# Altium integrated library Linear Technology Power Management Power-Over-Ethernet (PoE) Interface Controllers.IntLib: 174 symbols (part 13 of 16)
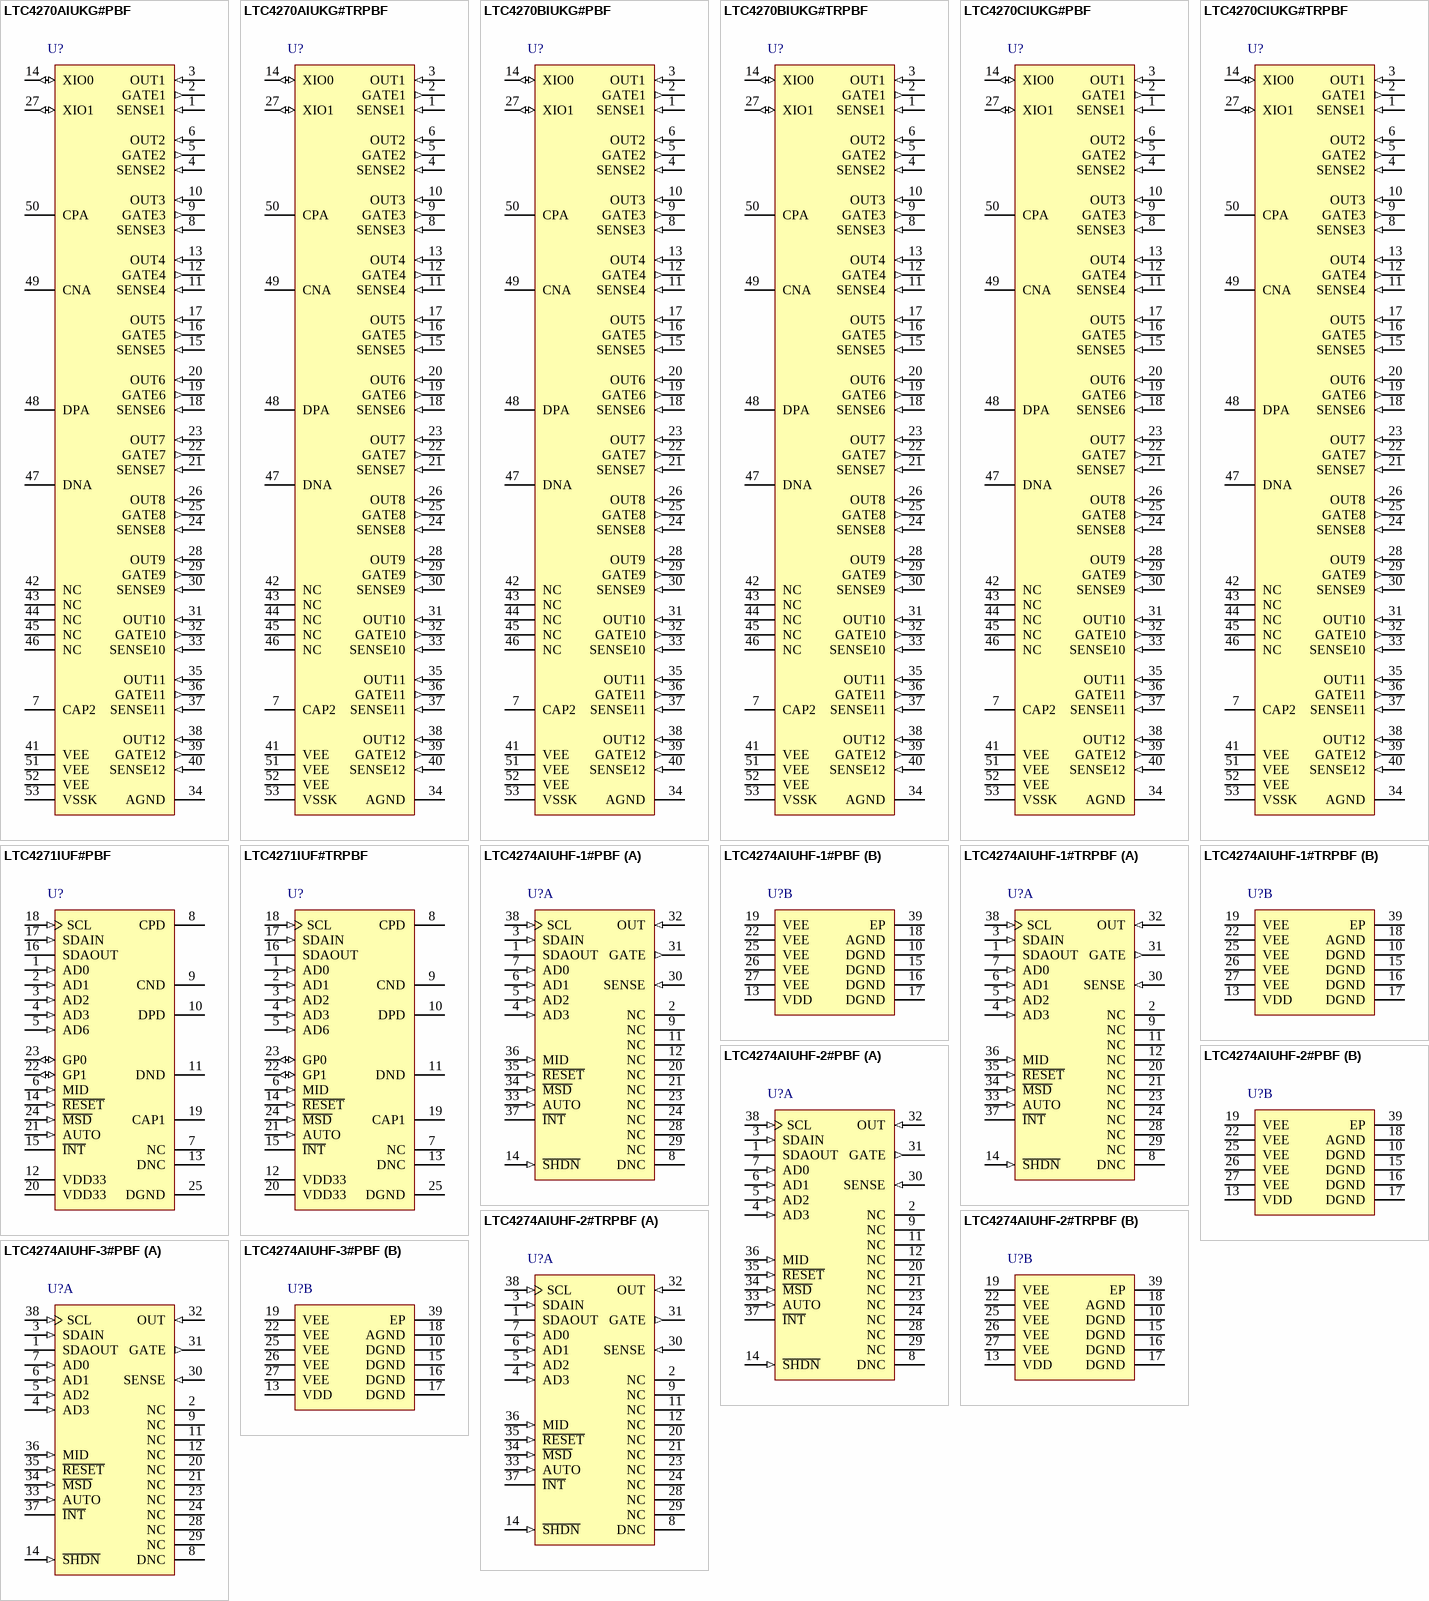
[diagram p20: symbols LTC4270AIUKG#PBF to LTC4274AIUHF-3#PBF]

## LTC4270CIUKG#TRPBF
designator U?
12-Port PoE / PoE+ / LTPoE++ PSE Controller, 52-pin QFN (UKG-52), -40 to 85 degC, Pb-Free, Tape and Reel; Manufacturer: Linear Technology; PartNumber: LTC4270CIUKG#TRPBF; Channels(#): 12; Extended Temp: I; I2C Interface: yes; Max Power(W): 13; PoE Type: 1, 2, LTPoE++; DatasheetVersion: Rev. C; PackageVersion: Rev. Ø, 06/2010; PackageReference: UKG-52; PackageDescription: 52-Pin Plastic QFN, Body 8 x 7 mm, Pitch 0.5 mm; Supplier 1: Newark; Supplier Part Number 1: 59T5713; Packing: Tape and Reel; PSE/PD: PSE; RoHS: TRUE; Mounting Technology: Surface Mount; ComponentLink1Description: Manufacturer URL; ComponentLink1URL: http://www.linear.com/; ComponentLink2Description: Datasheet; ComponentLink2URL: http://cds.linear.com/docs/en/datasheet/42701fc.pdf; ComponentLink3Description: Package Specification; ComponentLink3URL: http://cds.linear.com/docs/en/packaging/QFN_52_05-08-1729.pdf
footprint LT-UKG-52_N (QFN, 52-Leads, Body 8.1x7.1mm, Pitch 0.5mm, Thermal Pad 6.45x5.41mm, IPC Medium Density)
footprint LT-UKG-52_L (QFN, 52-Leads, Body 8.1x7.1mm, Pitch 0.5mm, Thermal Pad 6.45x5.41mm, IPC High Density)
footprint LT-UKG-52_M (QFN, 52-Leads, Body 8.1x7.1mm, Pitch 0.5mm, Thermal Pad 6.45x5.41mm, IPC Low Density)
pins: 1 SENSE1 (in) "Port n Current Sense Input. SENSEn monitors the external MOSFET current via a 0.5ohm or 0.25ohm sense resistor between SENSEn and VEE. Whenever the voltage across the sense resistor exceeds the overcurrent detection (See Datasheet)", 2 GATE1 (out) "Port n Gate Drive. GATEn should be connected to the gate of the external MOSFET for port n. When the MOSFET is turned on, the gate voltage is driven to 12V (typ) above VEE. During a current limit condition, the voltage at (See Datasheet)", 3 OUT1 (in) "Port n Output Voltage Monitor. OUTn should be connected to the output port. A current limit foldback circuit limits the power dissipation in the external MOSFET by reducing the current limit threshold when the (See Datasheet)", 4 SENSE2 (in) "Port n Current Sense Input. SENSEn monitors the external MOSFET current via a 0.5ohm or 0.25ohm sense resistor between SENSEn and VEE. Whenever the voltage across the sense resistor exceeds the overcurrent detection (See Datasheet)", 5 GATE2 (out) "Port n Gate Drive. GATEn should be connected to the gate of the external MOSFET for port n. When the MOSFET is turned on, the gate voltage is driven to 12V (typ) above VEE. During a current limit condition, the voltage at (See Datasheet)", 6 OUT2 (in) "Port n Output Voltage Monitor. OUTn should be connected to the output port. A current limit foldback circuit limits the power dissipation in the external MOSFET by reducing the current limit threshold when the (See Datasheet)", 7 CAP2 "Analog Internal 4.3V Power Supply Bypass Capacitor. Connect 0.1uF ceramic cap to VEE.", 8 SENSE3 (in) "Port n Current Sense Input. SENSEn monitors the external MOSFET current via a 0.5ohm or 0.25ohm sense resistor between SENSEn and VEE. Whenever the voltage across the sense resistor exceeds the overcurrent detection (See Datasheet)", 9 GATE3 (out) "Port n Gate Drive. GATEn should be connected to the gate of the external MOSFET for port n. When the MOSFET is turned on, the gate voltage is driven to 12V (typ) above VEE. During a current limit condition, the voltage at (See Datasheet)", 10 OUT3 (in) "Port n Output Voltage Monitor. OUTn should be connected to the output port. A current limit foldback circuit limits the power dissipation in the external MOSFET by reducing the current limit threshold when the (See Datasheet)", 11 SENSE4 (in) "Port n Current Sense Input. SENSEn monitors the external MOSFET current via a 0.5ohm or 0.25ohm sense resistor between SENSEn and VEE. Whenever the voltage across the sense resistor exceeds the overcurrent detection (See Datasheet)", 12 GATE4 (out) "Port n Gate Drive. GATEn should be connected to the gate of the external MOSFET for port n. When the MOSFET is turned on, the gate voltage is driven to 12V (typ) above VEE. During a current limit condition, the voltage at (See Datasheet)", 13 OUT4 (in) "Port n Output Voltage Monitor. OUTn should be connected to the output port. A current limit foldback circuit limits the power dissipation in the external MOSFET by reducing the current limit threshold when the (See Datasheet)", 14 XIO0 (io) "General Purpose Digital Input Output. Logic signal between VEE and VEE + 4.3V. Internal pull up.", 15 SENSE5 (in) "Port n Current Sense Input. SENSEn monitors the external MOSFET current via a 0.5ohm or 0.25ohm sense resistor between SENSEn and VEE. Whenever the voltage across the sense resistor exceeds the overcurrent detection (See Datasheet)", 16 GATE5 (out) "Port n Gate Drive. GATEn should be connected to the gate of the external MOSFET for port n. When the MOSFET is turned on, the gate voltage is driven to 12V (typ) above VEE. During a current limit condition, the voltage at (See Datasheet)", 17 OUT5 (in) "Port n Output Voltage Monitor. OUTn should be connected to the output port. A current limit foldback circuit limits the power dissipation in the external MOSFET by reducing the current limit threshold when the (See Datasheet)", 18 SENSE6 (in) "Port n Current Sense Input. SENSEn monitors the external MOSFET current via a 0.5ohm or 0.25ohm sense resistor between SENSEn and VEE. Whenever the voltage across the sense resistor exceeds the overcurrent detection (See Datasheet)", 19 GATE6 (out) "Port n Gate Drive. GATEn should be connected to the gate of the external MOSFET for port n. When the MOSFET is turned on, the gate voltage is driven to 12V (typ) above VEE. During a current limit condition, the voltage at (See Datasheet)", 20 OUT6 (in) "Port n Output Voltage Monitor. OUTn should be connected to the output port. A current limit foldback circuit limits the power dissipation in the external MOSFET by reducing the current limit threshold when the (See Datasheet)", 21 SENSE7 (in) "Port n Current Sense Input. SENSEn monitors the external MOSFET current via a 0.5ohm or 0.25ohm sense resistor between SENSEn and VEE. Whenever the voltage across the sense resistor exceeds the overcurrent detection (See Datasheet)", 22 GATE7 (out) "Port n Gate Drive. GATEn should be connected to the gate of the external MOSFET for port n. When the MOSFET is turned on, the gate voltage is driven to 12V (typ) above VEE. During a current limit condition, the voltage at (See Datasheet)", 23 OUT7 (in) "Port n Output Voltage Monitor. OUTn should be connected to the output port. A current limit foldback circuit limits the power dissipation in the external MOSFET by reducing the current limit threshold when the (See Datasheet)", 24 SENSE8 (in) "Port n Current Sense Input. SENSEn monitors the external MOSFET current via a 0.5ohm or 0.25ohm sense resistor between SENSEn and VEE. Whenever the voltage across the sense resistor exceeds the overcurrent detection (See Datasheet)", 25 GATE8 (out) "Port n Gate Drive. GATEn should be connected to the gate of the external MOSFET for port n. When the MOSFET is turned on, the gate voltage is driven to 12V (typ) above VEE. During a current limit condition, the voltage at (See Datasheet)", 26 OUT8 (in) "Port n Output Voltage Monitor. OUTn should be connected to the output port. A current limit foldback circuit limits the power dissipation in the external MOSFET by reducing the current limit threshold when the (See Datasheet)", 27 XIO1 (io) "General Purpose Digital Input Output. Logic signal between VEE and VEE + 4.3V. Internal pull up.", 28 OUT9 (in) "Port n Output Voltage Monitor. OUTn should be connected to the output port. A current limit foldback circuit limits the power dissipation in the external MOSFET by reducing the current limit threshold when the (See Datasheet)", 29 GATE9 (out) "Port n Gate Drive. GATEn should be connected to the gate of the external MOSFET for port n. When the MOSFET is turned on, the gate voltage is driven to 12V (typ) above VEE. During a current limit condition, the voltage at (See Datasheet)", 30 SENSE9 (in) "Port n Current Sense Input. SENSEn monitors the external MOSFET current via a 0.5ohm or 0.25ohm sense resistor between SENSEn and VEE. Whenever the voltage across the sense resistor exceeds the overcurrent detection (See Datasheet)", 31 OUT10 (in) "Port n Output Voltage Monitor. OUTn should be connected to the output port. A current limit foldback circuit limits the power dissipation in the external MOSFET by reducing the current limit threshold when the (See Datasheet)", 32 GATE10 (out) "Port n Gate Drive. GATEn should be connected to the gate of the external MOSFET for port n. When the MOSFET is turned on, the gate voltage is driven to 12V (typ) above VEE. During a current limit condition, the voltage at (See Datasheet)", 33 SENSE10 (in) "Port n Current Sense Input. SENSEn monitors the external MOSFET current via a 0.5ohm or 0.25ohm sense resistor between SENSEn and VEE. Whenever the voltage across the sense resistor exceeds the overcurrent detection (See Datasheet)", 34 AGND (power) "Analog Ground. Connect AGND to the return for the VEE supply.", 35 OUT11 (in) "Port n Output Voltage Monitor. OUTn should be connected to the output port. A current limit foldback circuit limits the power dissipation in the external MOSFET by reducing the current limit threshold when the (See Datasheet)", 36 GATE11 (out) "Port n Gate Drive. GATEn should be connected to the gate of the external MOSFET for port n. When the MOSFET is turned on, the gate voltage is driven to 12V (typ) above VEE. During a current limit condition, the voltage at (See Datasheet)", 37 SENSE11 (in) "Port n Current Sense Input. SENSEn monitors the external MOSFET current via a 0.5ohm or 0.25ohm sense resistor between SENSEn and VEE. Whenever the voltage across the sense resistor exceeds the overcurrent detection (See Datasheet)", 38 OUT12 (in) "Port n Output Voltage Monitor. OUTn should be connected to the output port. A current limit foldback circuit limits the power dissipation in the external MOSFET by reducing the current limit threshold when the (See Datasheet)", 39 GATE12 (out) "Port n Gate Drive. GATEn should be connected to the gate of the external MOSFET for port n. When the MOSFET is turned on, the gate voltage is driven to 12V (typ) above VEE. During a current limit condition, the voltage at (See Datasheet)", 40 SENSE12 (in) "Port n Current Sense Input. SENSEn monitors the external MOSFET current via a 0.5ohm or 0.25ohm sense resistor between SENSEn and VEE. Whenever the voltage across the sense resistor exceeds the overcurrent detection (See Datasheet)", 41 VEE (power) "Main PoE Supply Input. Connect to a -45V to -57V supply, relative to AGND. Voltage depends on PSE type (Type 1, Type 2 or LTPoE++.)", 42 NC "All pins identified with "NC" or "DNC" must be left unconnected.", 43 NC "All pins identified with "NC" or "DNC" must be left unconnected.", 44 NC "All pins identified with "NC" or "DNC" must be left unconnected.", 45 NC "All pins identified with "NC" or "DNC" must be left unconnected.", 46 NC "All pins identified with "NC" or "DNC" must be left unconnected.", 47 DNA "Data Transceiver Negative Input Output (Analog). Connect to DND through a data transformer.", 48 DPA "Data Transceiver Positive Input Output (Analog). Connect to DPD through a data transformer.", 49 CNA "Clock Transceiver Negative Input Output (Analog). Connect to CND through a data transformer.", 50 CPA "Clock Transceiver Positive Input Output (Analog). Connect to CPD through a data transformer.", 51 VEE (power) "Main PoE Supply Input. Connect to a -45V to -57V supply, relative to AGND. Voltage depends on PSE type (Type 1, Type 2 or LTPoE++.)", 52 VEE (power) "Main PoE Supply Input. Connect to a -45V to -57V supply, relative to AGND. Voltage depends on PSE type (Type 1, Type 2 or LTPoE++.)", 53 VSSK (power) "Kelvin Sense to VEE. Connect to sense resistor common node. Do not connect directly to VEE plane. See Layout Guide."

## LTC4271IUF#PBF
designator U?
12-Port PoE / PoE+ / LTPoE++ PSE Controller, 24-pin QFN (UF-24), -40 to 85 degC, Pb-Free; Manufacturer: Linear Technology; PartNumber: LTC4271IUF#PBF; Channels(#): 8; Extended Temp: I; I2C Interface: yes; PoE Type: 1.2; DatasheetVersion: Rev. C; PackageVersion: Rev. B, 02/2012; PackageReference: UF24; PackageDescription: 24-Pin Plastic QFN, Body 4 x 4 mm, Pitch 0.5 mm; Supplier 1: Digi-Key; Supplier Part Number 1: LTC4271IUF#PBF-ND; Supplier 2: Farnell; Supplier Part Number 2: 2313466; Supplier 3: Farnell; Supplier Part Number 3: 2095778; Supplier 4: Newark; Supplier Part Number 4: 59T5714; PSE/PD: PSE; RoHS: TRUE; Mounting Technology: Surface Mount; Code_JEDEC: MO-220; ComponentLink1Description: Manufacturer URL; ComponentLink1URL: http://www.linear.com/; ComponentLink2Description: Datasheet; ComponentLink2URL: http://cds.linear.com/docs/en/datasheet/42701fc.pdf; ComponentLink3Description: Package Specification; ComponentLink3URL: http://cds.linear.com/docs/en/packaging/%28UF24%29%20QFN%2005-08-1697%20Rev%20B.pdf
footprint LT-UF-24_N (QFN, 24-Leads, Body 4.1x4.1mm, Pitch 0.5mm, Thermal Pad 2.45x2.45mm, IPC Medium Density)
footprint LT-UF-24_L (QFN, 24-Leads, Body 4.1x4.1mm, Pitch 0.5mm, Thermal Pad 2.45x2.45mm, IPC High Density)
footprint LT-UF-24_M (QFN, 24-Leads, Body 4.1x4.1mm, Pitch 0.5mm, Thermal Pad 2.45x2.45mm, IPC Low Density)
pins: 1 AD0 (in) "Address Bit 0. Tie the address pins high or low to set the starting I2C serial address to which the LTC4271 responds. The chip will respond to this address plus the next two incremental addresses. The base address of the (See Datasheet)", 2 AD1 (in) "Address Bit 1. See AD0.", 3 AD2 (in) "Address Bit 2. See AD0.", 4 AD3 (in) "Address Bit 3. See AD0.", 5 AD6 (in) "Address Bit 6. See AD0.", 6 MID (in) "Midspan Mode Input. When high, the LTC4271 acts as a midspan device. Internally pulled down to DGND.", 7 NC "All pins identified with “NC” or “DNC” must be left unconnected.", 8 CPD "Clock Transceiver Positive Input Output (Digital). Connect to CPA through a data transformer.", 9 CND "Clock Transceiver Negative Input Output (Digital). Connect to CNA through a data transformer.", 10 DPD "Data Transceiver Positive Input Output (Digital). Connect to DPA through a data transformer.", 11 DND "Data Transceiver Negative Input Output (Digital). Connect to DNA through a data transformer.", 12 VDD33 (power) "VDD IO Power Supply. Connect to a 3.3V power supply relative to DGND. VDD33 must be bypassed to DGND near the LTC4271 with at least a 0.1uF capacitor.", 13 DNC "All pins identified with “NC” or “DNC” must be left unconnected.", 14 ~{RESET} (in) "Reset Input, Active Low. When the R\E\S\E\T\ pin is low, the LTC4270/LTC4271 is held inactive with all ports off and all internal registers reset to their power-up states. When R\E\S\E\T\ is pulled high, the LTC4271 begins (See Datasheet)", 15 ~{INT} (hiz) "Interrupt Output, Open Drain. I\N\T\ will pull low when any one of several events occur in the LTC4271. It will return to a high impedance state when bits 6 or 7 are set in the Reset PB register (1Ah). The I\N\T\ signal can (See Datasheet)", 16 SDAOUT (oc) "Serial Data Output, Open Drain Data Output for the I2C Serial Interface Bus. The LTC4271 uses two pins to implement the bidirectional SDA function to simplify optoisolation of the I2C bus. To implement a standard (See Datasheet)", 17 SDAIN (in) "Serial Data Input. High impedance data input for the I2C serial interface bus. The LTC4271 uses two pins to implement the bidirectional SDA function to simplify optoisolation of the I2C bus. To implement a standard (See Datasheet)", 18 SCL (in) "Serial Clock Input. High impedance clock input for the I2C serial interface bus. The SCL pin should be connected directly to the I2C SCL bus line. SCL must be tied high if the I2C serial interface bus is not used.", 19 CAP1 "Core Power Supply Bypass Capacitor. Connect a 1uF Bypass capacitance to DGND for the internal 1.8V regulator. Do not use other capacitor values.", 20 VDD33 (power) "VDD IO Power Supply. Connect to a 3.3V power supply relative to DGND. VDD33 must be bypassed to DGND near the LTC4271 with at least a 0.1uF capacitor.", 21 AUTO (in) "AUTO Pin Mode Input. AUTO pin mode allows the LTC4271 to detect and power up a PD even if there is no host controller present on the I2C bus. The AUTO pin determines the state of the internal registers when the LTC4271 is (See Datasheet)", 22 GP1 (io) "General Purpose Digital Input Output for customer applications. Referenced to DGND.", 23 GP0 (io) "General Purpose Digital Input Output for customer applications. Referenced to DGND.", 24 ~{MSD} (in) "Maskable Shutdown Input. Active low. When pulled low, all ports that have their corresponding mask bit set in the mconfig register (17h) will be reset. Internal filtering of the M\S\D\ pin prevents glitches less than 1us (See Datasheet)", 25 DGND (power) "Digital Ground. DGND should be connected to the return from the VDD supply."

## LTC4271IUF#TRPBF
designator U?
12-Port PoE / PoE+ / LTPoE++ PSE Controller, 24-pin QFN (UF-24), -40 to 85 degC, Pb-Free, Tape and Reel; Manufacturer: Linear Technology; PartNumber: LTC4271IUF#TRPBF; Channels(#): 8; Extended Temp: I; I2C Interface: yes; PoE Type: 1.2; DatasheetVersion: Rev. C; PackageVersion: Rev. B, 02/2012; PackageReference: UF24; PackageDescription: 24-Pin Plastic QFN, Body 4 x 4 mm, Pitch 0.5 mm; Supplier 1: Newark; Supplier Part Number 1: 59T5715; Packing: Tape and Reel; PSE/PD: PSE; RoHS: TRUE; Mounting Technology: Surface Mount; Code_JEDEC: MO-220; ComponentLink1Description: Manufacturer URL; ComponentLink1URL: http://www.linear.com/; ComponentLink2Description: Datasheet; ComponentLink2URL: http://cds.linear.com/docs/en/datasheet/42701fc.pdf; ComponentLink3Description: Package Specification; ComponentLink3URL: http://cds.linear.com/docs/en/packaging/%28UF24%29%20QFN%2005-08-1697%20Rev%20B.pdf
footprint LT-UF-24_N (QFN, 24-Leads, Body 4.1x4.1mm, Pitch 0.5mm, Thermal Pad 2.45x2.45mm, IPC Medium Density)
footprint LT-UF-24_L (QFN, 24-Leads, Body 4.1x4.1mm, Pitch 0.5mm, Thermal Pad 2.45x2.45mm, IPC High Density)
footprint LT-UF-24_M (QFN, 24-Leads, Body 4.1x4.1mm, Pitch 0.5mm, Thermal Pad 2.45x2.45mm, IPC Low Density)
pins: 1 AD0 (in) "Address Bit 0. Tie the address pins high or low to set the starting I2C serial address to which the LTC4271 responds. The chip will respond to this address plus the next two incremental addresses. The base address of the (See Datasheet)", 2 AD1 (in) "Address Bit 1. See AD0.", 3 AD2 (in) "Address Bit 2. See AD0.", 4 AD3 (in) "Address Bit 3. See AD0.", 5 AD6 (in) "Address Bit 6. See AD0.", 6 MID (in) "Midspan Mode Input. When high, the LTC4271 acts as a midspan device. Internally pulled down to DGND.", 7 NC "All pins identified with “NC” or “DNC” must be left unconnected.", 8 CPD "Clock Transceiver Positive Input Output (Digital). Connect to CPA through a data transformer.", 9 CND "Clock Transceiver Negative Input Output (Digital). Connect to CNA through a data transformer.", 10 DPD "Data Transceiver Positive Input Output (Digital). Connect to DPA through a data transformer.", 11 DND "Data Transceiver Negative Input Output (Digital). Connect to DNA through a data transformer.", 12 VDD33 (power) "VDD IO Power Supply. Connect to a 3.3V power supply relative to DGND. VDD33 must be bypassed to DGND near the LTC4271 with at least a 0.1uF capacitor.", 13 DNC "All pins identified with “NC” or “DNC” must be left unconnected.", 14 ~{RESET} (in) "Reset Input, Active Low. When the R\E\S\E\T\ pin is low, the LTC4270/LTC4271 is held inactive with all ports off and all internal registers reset to their power-up states. When R\E\S\E\T\ is pulled high, the LTC4271 begins (See Datasheet)", 15 ~{INT} (hiz) "Interrupt Output, Open Drain. I\N\T\ will pull low when any one of several events occur in the LTC4271. It will return to a high impedance state when bits 6 or 7 are set in the Reset PB register (1Ah). The I\N\T\ signal can (See Datasheet)", 16 SDAOUT (oc) "Serial Data Output, Open Drain Data Output for the I2C Serial Interface Bus. The LTC4271 uses two pins to implement the bidirectional SDA function to simplify optoisolation of the I2C bus. To implement a standard (See Datasheet)", 17 SDAIN (in) "Serial Data Input. High impedance data input for the I2C serial interface bus. The LTC4271 uses two pins to implement the bidirectional SDA function to simplify optoisolation of the I2C bus. To implement a standard (See Datasheet)", 18 SCL (in) "Serial Clock Input. High impedance clock input for the I2C serial interface bus. The SCL pin should be connected directly to the I2C SCL bus line. SCL must be tied high if the I2C serial interface bus is not used.", 19 CAP1 "Core Power Supply Bypass Capacitor. Connect a 1uF Bypass capacitance to DGND for the internal 1.8V regulator. Do not use other capacitor values.", 20 VDD33 (power) "VDD IO Power Supply. Connect to a 3.3V power supply relative to DGND. VDD33 must be bypassed to DGND near the LTC4271 with at least a 0.1uF capacitor.", 21 AUTO (in) "AUTO Pin Mode Input. AUTO pin mode allows the LTC4271 to detect and power up a PD even if there is no host controller present on the I2C bus. The AUTO pin determines the state of the internal registers when the LTC4271 is (See Datasheet)", 22 GP1 (io) "General Purpose Digital Input Output for customer applications. Referenced to DGND.", 23 GP0 (io) "General Purpose Digital Input Output for customer applications. Referenced to DGND.", 24 ~{MSD} (in) "Maskable Shutdown Input. Active low. When pulled low, all ports that have their corresponding mask bit set in the mconfig register (17h) will be reset. Internal filtering of the M\S\D\ pin prevents glitches less than 1us (See Datasheet)", 25 DGND (power) "Digital Ground. DGND should be connected to the return from the VDD supply."

## LTC4274AIUHF-1#PBF
designator U?
Single PoE / PoE+ / LTPoE++ PSE Controller, 38-pin QFN (UHF-38), -40 to 85 degC, Pb-Free; Manufacturer: Linear Technology; PartNumber: LTC4274AIUHF-1#PBF; Channels(#): 1; Extended Temp: I; I2C Interface: yes; Max Power(W): 38.7; PoE Type: 1, 2, LTPoE++; DatasheetVersion: Rev. C; PackageVersion: Rev. C, 06/2010; PackageReference: UHF-38; PackageDescription: 38-Pin Plastic QFN, Body 7 x 5 mm, Pitch 0.5 mm; Supplier 1: Digi-Key; Supplier Part Number 1: LTC4274AIUHF-1#PBF-ND; Supplier 2: Farnell; Supplier Part Number 2: 2293153; Supplier 3: Newark; Supplier Part Number 3: 59T5716; PSE/PD: PSE; RoHS: TRUE; Mounting Technology: Surface Mount; Code_JEDEC: MO-220; ComponentLink1Description: Manufacturer URL; ComponentLink1URL: http://www.linear.com/; ComponentLink2Description: Datasheet; ComponentLink2URL: http://cds.linear.com/docs/en/datasheet/4274acfc.pdf; ComponentLink3Description: Package Specification; ComponentLink3URL: http://cds.linear.com/docs/en/packaging/QFN_38_05-08-1701.pdf
footprint LT-UHF-38_N (QFN, 38-Leads, Body 7.1x5.1mm, Pitch 0.5mm, Thermal Pad 3.15x5.15mm, IPC Medium Density)
footprint LT-UHF-38_L (QFN, 38-Leads, Body 7.1x5.1mm, Pitch 0.5mm, Thermal Pad 3.15x5.15mm, IPC High Density)
footprint LT-UHF-38_M (QFN, 38-Leads, Body 7.1x5.1mm, Pitch 0.5mm, Thermal Pad 3.15x5.15mm, IPC Low Density)
part A pins: 1 SDAOUT (oc) "Serial Data Output, Open Drain Data Output for the I2C Serial Interface Bus.", 2 NC "All pins identified with ''NC''± or ''DNC''± must be left unconnected.", 3 SDAIN (in) "Serial Data Input. High impedance data input for the I2C serial interface bus.", 4 AD3 (in) "Address Bit 3.", 5 AD2 (in) "Address Bit 2. See AD3.", 6 AD1 (in) "Address Bit 1. See AD3.", 7 AD0 (in) "Address Bit 0. See AD3.", 8 DNC "All pins identified with ''NC''± or ''DNC''± must be left unconnected.", 9 NC "All pins identified with ''NC''± or ''DNC''± must be left unconnected.", 11 NC "All pins identified with ''NC''± or ''DNC''± must be left unconnected.", 12 NC "All pins identified with ''NC''± or ''DNC''± must be left unconnected.", 14 ~{SHDN} (in) "Shutdown, Active Low. When pulled low, S\H\D\N\ shuts down the port, regardless of the state of the internal registers. Pulling S\H\D\N\ low is equivalent to setting the Reset Port bit in the Reset Pushbutton register (1Ah). (See Datasheet)", 20 NC "All pins identified with ''NC''± or ''DNC''± must be left unconnected.", 21 NC "All pins identified with ''NC''± or ''DNC''± must be left unconnected.", 23 NC "All pins identified with ''NC''± or ''DNC''± must be left unconnected.", 24 NC "All pins identified with ''NC''± or ''DNC''± must be left unconnected.", 28 NC "All pins identified with ''NC''± or ''DNC''± must be left unconnected.", 29 NC "All pins identified with ''NC''± or ''DNC''± must be left unconnected.", 30 SENSE (in) "Current Sense Input. SENSE monitors the external MOSFET current via a 0.5ohm or 0.25ohm sense resistor between SENSE and VEE. Whenever the voltage across the sense resistor exceeds the overcurrent detection threshold VCUT, (See Datasheet)", 31 GATE (out) "Gate Drive. GATE should be connected to the gate of the external MOSFET for the port. When the MOSFET is turned on, the gate voltage is driven to 12V (typ) above VEE. During a current limit condition, the voltage at GATE (See Datasheet)", 32 OUT (in) "Output Voltage Monitor. OUT should be connected to the output port. A current limit foldback circuit limits the power dissipation in the external MOSFET by reducing the current limit threshold when the drain-to-source (See Datasheet)", 33 AUTO (in) "AUTO Pin Mode Input.", 34 ~{MSD} (in) "Maskable Shutdown Input. Active low. When pulled low, all ports that have their corresponding mask bit set in the Misc Config register (17h) will be reset, equivalent to pulling the S\H\D\N\ pin low. Internal filtering of (See Datasheet)", 35 ~{RESET} (in) "Chip Reset, Active Low.", 36 MID (in) "Midspan Mode Input.", 37 ~{INT} (hiz) "Interrupt Output, Open Drain.", 38 SCL (in) "Serial Clock Input. High impedance clock input for the I2C serial interface bus. SCL must be tied high if not used."
part B pins: 10 DGND (power) "Digital Ground. DGND is the return for the VDD supply.", 13 VDD (power) "Logic Power Supply. Connect to a 3.3V power supply relative to DGND.", 15 DGND (power) "Digital Ground. DGND is the return for the VDD supply.", 16 DGND (power) "Digital Ground. DGND is the return for the VDD supply.", 17 DGND (power) "Digital Ground. DGND is the return for the VDD supply.", 18 AGND (power) "Analog Ground. AGND is the return for the VEE supply.", 19 VEE (power) "Main Supply Input. Connect to a -45V to -57V supply, relative to AGND.", 22 VEE (power) "Main Supply Input. Connect to a -45V to -57V supply, relative to AGND.", 25 VEE (power) "Main Supply Input. Connect to a -45V to -57V supply, relative to AGND.", 26 VEE (power) "Main Supply Input. Connect to a -45V to -57V supply, relative to AGND.", 27 VEE (power) "Main Supply Input. Connect to a -45V to -57V supply, relative to AGND.", 39 EP (power)

## LTC4274AIUHF-1#TRPBF
designator U?
Single PoE / PoE+ / LTPoE++ PSE Controller, 38-pin QFN (UHF-38), -40 to 85 degC, Pb-Free, Tape and Reel; Manufacturer: Linear Technology; PartNumber: LTC4274AIUHF-1#TRPBF; Channels(#): 1; Extended Temp: I; I2C Interface: yes; Max Power(W): 38.7; PoE Type: 1, 2, LTPoE++; DatasheetVersion: Rev. C; PackageVersion: Rev. C, 06/2010; PackageReference: UHF-38; PackageDescription: 38-Pin Plastic QFN, Body 7 x 5 mm, Pitch 0.5 mm; Supplier 1: Digi-Key; Supplier Part Number 1: LTC4274AIUHF-1#TRPBF-ND; Supplier 2: Newark; Supplier Part Number 2: 59T5717; Packing: Tape and Reel; PSE/PD: PSE; RoHS: TRUE; Mounting Technology: Surface Mount; Code_JEDEC: MO-220; ComponentLink1Description: Manufacturer URL; ComponentLink1URL: http://www.linear.com/; ComponentLink2Description: Datasheet; ComponentLink2URL: http://cds.linear.com/docs/en/datasheet/4274acfc.pdf; ComponentLink3Description: Package Specification; ComponentLink3URL: http://cds.linear.com/docs/en/packaging/QFN_38_05-08-1701.pdf
footprint LT-UHF-38_N (QFN, 38-Leads, Body 7.1x5.1mm, Pitch 0.5mm, Thermal Pad 3.15x5.15mm, IPC Medium Density)
footprint LT-UHF-38_L (QFN, 38-Leads, Body 7.1x5.1mm, Pitch 0.5mm, Thermal Pad 3.15x5.15mm, IPC High Density)
footprint LT-UHF-38_M (QFN, 38-Leads, Body 7.1x5.1mm, Pitch 0.5mm, Thermal Pad 3.15x5.15mm, IPC Low Density)
part A pins: 1 SDAOUT (oc) "Serial Data Output, Open Drain Data Output for the I2C Serial Interface Bus.", 2 NC "All pins identified with ''NC''± or ''DNC''± must be left unconnected.", 3 SDAIN (in) "Serial Data Input. High impedance data input for the I2C serial interface bus.", 4 AD3 (in) "Address Bit 3.", 5 AD2 (in) "Address Bit 2. See AD3.", 6 AD1 (in) "Address Bit 1. See AD3.", 7 AD0 (in) "Address Bit 0. See AD3.", 8 DNC "All pins identified with ''NC''± or ''DNC''± must be left unconnected.", 9 NC "All pins identified with ''NC''± or ''DNC''± must be left unconnected.", 11 NC "All pins identified with ''NC''± or ''DNC''± must be left unconnected.", 12 NC "All pins identified with ''NC''± or ''DNC''± must be left unconnected.", 14 ~{SHDN} (in) "Shutdown, Active Low. When pulled low, S\H\D\N\ shuts down the port, regardless of the state of the internal registers. Pulling S\H\D\N\ low is equivalent to setting the Reset Port bit in the Reset Pushbutton register (1Ah). (See Datasheet)", 20 NC "All pins identified with ''NC''± or ''DNC''± must be left unconnected.", 21 NC "All pins identified with ''NC''± or ''DNC''± must be left unconnected.", 23 NC "All pins identified with ''NC''± or ''DNC''± must be left unconnected.", 24 NC "All pins identified with ''NC''± or ''DNC''± must be left unconnected.", 28 NC "All pins identified with ''NC''± or ''DNC''± must be left unconnected.", 29 NC "All pins identified with ''NC''± or ''DNC''± must be left unconnected.", 30 SENSE (in) "Current Sense Input. SENSE monitors the external MOSFET current via a 0.5ohm or 0.25ohm sense resistor between SENSE and VEE. Whenever the voltage across the sense resistor exceeds the overcurrent detection threshold VCUT, (See Datasheet)", 31 GATE (out) "Gate Drive. GATE should be connected to the gate of the external MOSFET for the port. When the MOSFET is turned on, the gate voltage is driven to 12V (typ) above VEE. During a current limit condition, the voltage at GATE (See Datasheet)", 32 OUT (in) "Output Voltage Monitor. OUT should be connected to the output port. A current limit foldback circuit limits the power dissipation in the external MOSFET by reducing the current limit threshold when the drain-to-source (See Datasheet)", 33 AUTO (in) "AUTO Pin Mode Input.", 34 ~{MSD} (in) "Maskable Shutdown Input. Active low. When pulled low, all ports that have their corresponding mask bit set in the Misc Config register (17h) will be reset, equivalent to pulling the S\H\D\N\ pin low. Internal filtering of (See Datasheet)", 35 ~{RESET} (in) "Chip Reset, Active Low.", 36 MID (in) "Midspan Mode Input.", 37 ~{INT} (hiz) "Interrupt Output, Open Drain.", 38 SCL (in) "Serial Clock Input. High impedance clock input for the I2C serial interface bus. SCL must be tied high if not used."
part B pins: 10 DGND (power) "Digital Ground. DGND is the return for the VDD supply.", 13 VDD (power) "Logic Power Supply. Connect to a 3.3V power supply relative to DGND.", 15 DGND (power) "Digital Ground. DGND is the return for the VDD supply.", 16 DGND (power) "Digital Ground. DGND is the return for the VDD supply.", 17 DGND (power) "Digital Ground. DGND is the return for the VDD supply.", 18 AGND (power) "Analog Ground. AGND is the return for the VEE supply.", 19 VEE (power) "Main Supply Input. Connect to a -45V to -57V supply, relative to AGND.", 22 VEE (power) "Main Supply Input. Connect to a -45V to -57V supply, relative to AGND.", 25 VEE (power) "Main Supply Input. Connect to a -45V to -57V supply, relative to AGND.", 26 VEE (power) "Main Supply Input. Connect to a -45V to -57V supply, relative to AGND.", 27 VEE (power) "Main Supply Input. Connect to a -45V to -57V supply, relative to AGND.", 39 EP (power)

## LTC4274AIUHF-2#PBF
designator U?
Single PoE / PoE+ / LTPoE++ PSE Controller, 38-pin QFN (UHF-38), -40 to 85 degC, Pb-Free; Manufacturer: Linear Technology; PartNumber: LTC4274AIUHF-2#PBF; Channels(#): 1; Extended Temp: I; I2C Interface: yes; Max Power(W): 52.7; PoE Type: 1, 2, LTPoE++; DatasheetVersion: Rev. C; PackageVersion: Rev. C, 06/2010; PackageReference: UHF-38; PackageDescription: 38-Pin Plastic QFN, Body 7 x 5 mm, Pitch 0.5 mm; Supplier 1: Digi-Key; Supplier Part Number 1: LTC4274AIUHF-2#PBF-ND; Supplier 2: Farnell; Supplier Part Number 2: 2293154; Supplier 3: Newark; Supplier Part Number 3: 59T5718; PSE/PD: PSE; RoHS: TRUE; Mounting Technology: Surface Mount; Code_JEDEC: MO-220; ComponentLink1Description: Manufacturer URL; ComponentLink1URL: http://www.linear.com/; ComponentLink2Description: Datasheet; ComponentLink2URL: http://cds.linear.com/docs/en/datasheet/4274acfc.pdf; ComponentLink3Description: Package Specification; ComponentLink3URL: http://cds.linear.com/docs/en/packaging/QFN_38_05-08-1701.pdf
footprint LT-UHF-38_N (QFN, 38-Leads, Body 7.1x5.1mm, Pitch 0.5mm, Thermal Pad 3.15x5.15mm, IPC Medium Density)
footprint LT-UHF-38_L (QFN, 38-Leads, Body 7.1x5.1mm, Pitch 0.5mm, Thermal Pad 3.15x5.15mm, IPC High Density)
footprint LT-UHF-38_M (QFN, 38-Leads, Body 7.1x5.1mm, Pitch 0.5mm, Thermal Pad 3.15x5.15mm, IPC Low Density)
part A pins: 1 SDAOUT (oc) "Serial Data Output, Open Drain Data Output for the I2C Serial Interface Bus.", 2 NC "All pins identified with ''NC''± or ''DNC''± must be left unconnected.", 3 SDAIN (in) "Serial Data Input. High impedance data input for the I2C serial interface bus.", 4 AD3 (in) "Address Bit 3.", 5 AD2 (in) "Address Bit 2. See AD3.", 6 AD1 (in) "Address Bit 1. See AD3.", 7 AD0 (in) "Address Bit 0. See AD3.", 8 DNC "All pins identified with ''NC''± or ''DNC''± must be left unconnected.", 9 NC "All pins identified with ''NC''± or ''DNC''± must be left unconnected.", 11 NC "All pins identified with ''NC''± or ''DNC''± must be left unconnected.", 12 NC "All pins identified with ''NC''± or ''DNC''± must be left unconnected.", 14 ~{SHDN} (in) "Shutdown, Active Low. When pulled low, S\H\D\N\ shuts down the port, regardless of the state of the internal registers. Pulling S\H\D\N\ low is equivalent to setting the Reset Port bit in the Reset Pushbutton register (1Ah). (See Datasheet)", 20 NC "All pins identified with ''NC''± or ''DNC''± must be left unconnected.", 21 NC "All pins identified with ''NC''± or ''DNC''± must be left unconnected.", 23 NC "All pins identified with ''NC''± or ''DNC''± must be left unconnected.", 24 NC "All pins identified with ''NC''± or ''DNC''± must be left unconnected.", 28 NC "All pins identified with ''NC''± or ''DNC''± must be left unconnected.", 29 NC "All pins identified with ''NC''± or ''DNC''± must be left unconnected.", 30 SENSE (in) "Current Sense Input. SENSE monitors the external MOSFET current via a 0.5ohm or 0.25ohm sense resistor between SENSE and VEE. Whenever the voltage across the sense resistor exceeds the overcurrent detection threshold VCUT, (See Datasheet)", 31 GATE (out) "Gate Drive. GATE should be connected to the gate of the external MOSFET for the port. When the MOSFET is turned on, the gate voltage is driven to 12V (typ) above VEE. During a current limit condition, the voltage at GATE (See Datasheet)", 32 OUT (in) "Output Voltage Monitor. OUT should be connected to the output port. A current limit foldback circuit limits the power dissipation in the external MOSFET by reducing the current limit threshold when the drain-to-source (See Datasheet)", 33 AUTO (in) "AUTO Pin Mode Input.", 34 ~{MSD} (in) "Maskable Shutdown Input. Active low. When pulled low, all ports that have their corresponding mask bit set in the Misc Config register (17h) will be reset, equivalent to pulling the S\H\D\N\ pin low. Internal filtering of (See Datasheet)", 35 ~{RESET} (in) "Chip Reset, Active Low.", 36 MID (in) "Midspan Mode Input.", 37 ~{INT} (hiz) "Interrupt Output, Open Drain.", 38 SCL (in) "Serial Clock Input. High impedance clock input for the I2C serial interface bus. SCL must be tied high if not used."
part B pins: 10 DGND (power) "Digital Ground. DGND is the return for the VDD supply.", 13 VDD (power) "Logic Power Supply. Connect to a 3.3V power supply relative to DGND.", 15 DGND (power) "Digital Ground. DGND is the return for the VDD supply.", 16 DGND (power) "Digital Ground. DGND is the return for the VDD supply.", 17 DGND (power) "Digital Ground. DGND is the return for the VDD supply.", 18 AGND (power) "Analog Ground. AGND is the return for the VEE supply.", 19 VEE (power) "Main Supply Input. Connect to a -45V to -57V supply, relative to AGND.", 22 VEE (power) "Main Supply Input. Connect to a -45V to -57V supply, relative to AGND.", 25 VEE (power) "Main Supply Input. Connect to a -45V to -57V supply, relative to AGND.", 26 VEE (power) "Main Supply Input. Connect to a -45V to -57V supply, relative to AGND.", 27 VEE (power) "Main Supply Input. Connect to a -45V to -57V supply, relative to AGND.", 39 EP (power)

## LTC4274AIUHF-2#TRPBF
designator U?
Single PoE / PoE+ / LTPoE++ PSE Controller, 38-pin QFN (UHF-38), -40 to 85 degC, Pb-Free, Tape and Reel; Manufacturer: Linear Technology; PartNumber: LTC4274AIUHF-2#TRPBF; Channels(#): 1; Extended Temp: I; I2C Interface: yes; Max Power(W): 52.7; PoE Type: 1, 2, LTPoE++; DatasheetVersion: Rev. C; PackageVersion: Rev. C, 06/2010; PackageReference: UHF-38; PackageDescription: 38-Pin Plastic QFN, Body 7 x 5 mm, Pitch 0.5 mm; Supplier 1: Digi-Key; Supplier Part Number 1: LTC4274AIUHF-2#TRPBF-ND; Packing: Tape and Reel; PSE/PD: PSE; RoHS: TRUE; Mounting Technology: Surface Mount; Code_JEDEC: MO-220; ComponentLink1Description: Manufacturer URL; ComponentLink1URL: http://www.linear.com/; ComponentLink2Description: Datasheet; ComponentLink2URL: http://cds.linear.com/docs/en/datasheet/4274acfc.pdf; ComponentLink3Description: Package Specification; ComponentLink3URL: http://cds.linear.com/docs/en/packaging/QFN_38_05-08-1701.pdf
footprint LT-UHF-38_N (QFN, 38-Leads, Body 7.1x5.1mm, Pitch 0.5mm, Thermal Pad 3.15x5.15mm, IPC Medium Density)
footprint LT-UHF-38_L (QFN, 38-Leads, Body 7.1x5.1mm, Pitch 0.5mm, Thermal Pad 3.15x5.15mm, IPC High Density)
footprint LT-UHF-38_M (QFN, 38-Leads, Body 7.1x5.1mm, Pitch 0.5mm, Thermal Pad 3.15x5.15mm, IPC Low Density)
part A pins: 1 SDAOUT (oc) "Serial Data Output, Open Drain Data Output for the I2C Serial Interface Bus.", 2 NC "All pins identified with ''NC''± or ''DNC''± must be left unconnected.", 3 SDAIN (in) "Serial Data Input. High impedance data input for the I2C serial interface bus.", 4 AD3 (in) "Address Bit 3.", 5 AD2 (in) "Address Bit 2. See AD3.", 6 AD1 (in) "Address Bit 1. See AD3.", 7 AD0 (in) "Address Bit 0. See AD3.", 8 DNC "All pins identified with ''NC''± or ''DNC''± must be left unconnected.", 9 NC "All pins identified with ''NC''± or ''DNC''± must be left unconnected.", 11 NC "All pins identified with ''NC''± or ''DNC''± must be left unconnected.", 12 NC "All pins identified with ''NC''± or ''DNC''± must be left unconnected.", 14 ~{SHDN} (in) "Shutdown, Active Low. When pulled low, S\H\D\N\ shuts down the port, regardless of the state of the internal registers. Pulling S\H\D\N\ low is equivalent to setting the Reset Port bit in the Reset Pushbutton register (1Ah). (See Datasheet)", 20 NC "All pins identified with ''NC''± or ''DNC''± must be left unconnected.", 21 NC "All pins identified with ''NC''± or ''DNC''± must be left unconnected.", 23 NC "All pins identified with ''NC''± or ''DNC''± must be left unconnected.", 24 NC "All pins identified with ''NC''± or ''DNC''± must be left unconnected.", 28 NC "All pins identified with ''NC''± or ''DNC''± must be left unconnected.", 29 NC "All pins identified with ''NC''± or ''DNC''± must be left unconnected.", 30 SENSE (in) "Current Sense Input. SENSE monitors the external MOSFET current via a 0.5ohm or 0.25ohm sense resistor between SENSE and VEE. Whenever the voltage across the sense resistor exceeds the overcurrent detection threshold VCUT, (See Datasheet)", 31 GATE (out) "Gate Drive. GATE should be connected to the gate of the external MOSFET for the port. When the MOSFET is turned on, the gate voltage is driven to 12V (typ) above VEE. During a current limit condition, the voltage at GATE (See Datasheet)", 32 OUT (in) "Output Voltage Monitor. OUT should be connected to the output port. A current limit foldback circuit limits the power dissipation in the external MOSFET by reducing the current limit threshold when the drain-to-source (See Datasheet)", 33 AUTO (in) "AUTO Pin Mode Input.", 34 ~{MSD} (in) "Maskable Shutdown Input. Active low. When pulled low, all ports that have their corresponding mask bit set in the Misc Config register (17h) will be reset, equivalent to pulling the S\H\D\N\ pin low. Internal filtering of (See Datasheet)", 35 ~{RESET} (in) "Chip Reset, Active Low.", 36 MID (in) "Midspan Mode Input.", 37 ~{INT} (hiz) "Interrupt Output, Open Drain.", 38 SCL (in) "Serial Clock Input. High impedance clock input for the I2C serial interface bus. SCL must be tied high if not used."
part B pins: 10 DGND (power) "Digital Ground. DGND is the return for the VDD supply.", 13 VDD (power) "Logic Power Supply. Connect to a 3.3V power supply relative to DGND.", 15 DGND (power) "Digital Ground. DGND is the return for the VDD supply.", 16 DGND (power) "Digital Ground. DGND is the return for the VDD supply.", 17 DGND (power) "Digital Ground. DGND is the return for the VDD supply.", 18 AGND (power) "Analog Ground. AGND is the return for the VEE supply.", 19 VEE (power) "Main Supply Input. Connect to a -45V to -57V supply, relative to AGND.", 22 VEE (power) "Main Supply Input. Connect to a -45V to -57V supply, relative to AGND.", 25 VEE (power) "Main Supply Input. Connect to a -45V to -57V supply, relative to AGND.", 26 VEE (power) "Main Supply Input. Connect to a -45V to -57V supply, relative to AGND.", 27 VEE (power) "Main Supply Input. Connect to a -45V to -57V supply, relative to AGND.", 39 EP (power)

## LTC4274AIUHF-3#PBF
designator U?
Single PoE / PoE+ / LTPoE++ PSE Controller, 38-pin QFN (UHF-38), -40 to 85 degC, Pb-Free; Manufacturer: Linear Technology; PartNumber: LTC4274AIUHF-3#PBF; Channels(#): 1; Extended Temp: I; I2C Interface: yes; Max Power(W): 70; PoE Type: 1, 2, LTPoE++; DatasheetVersion: Rev. C; PackageVersion: Rev. C, 06/2010; PackageReference: UHF-38; PackageDescription: 38-Pin Plastic QFN, Body 7 x 5 mm, Pitch 0.5 mm; Supplier 1: Digi-Key; Supplier Part Number 1: LTC4274AIUHF-3#PBF-ND; Supplier 2: Farnell; Supplier Part Number 2: 2293155; Supplier 3: Newark; Supplier Part Number 3: 59T5720; PSE/PD: PSE; RoHS: TRUE; Mounting Technology: Surface Mount; Code_JEDEC: MO-220; ComponentLink1Description: Manufacturer URL; ComponentLink1URL: http://www.linear.com/; ComponentLink2Description: Datasheet; ComponentLink2URL: http://cds.linear.com/docs/en/datasheet/4274acfc.pdf; ComponentLink3Description: Package Specification; ComponentLink3URL: http://cds.linear.com/docs/en/packaging/QFN_38_05-08-1701.pdf
footprint LT-UHF-38_N (QFN, 38-Leads, Body 7.1x5.1mm, Pitch 0.5mm, Thermal Pad 3.15x5.15mm, IPC Medium Density)
footprint LT-UHF-38_L (QFN, 38-Leads, Body 7.1x5.1mm, Pitch 0.5mm, Thermal Pad 3.15x5.15mm, IPC High Density)
footprint LT-UHF-38_M (QFN, 38-Leads, Body 7.1x5.1mm, Pitch 0.5mm, Thermal Pad 3.15x5.15mm, IPC Low Density)
part A pins: 1 SDAOUT (oc) "Serial Data Output, Open Drain Data Output for the I2C Serial Interface Bus.", 2 NC "All pins identified with ''NC''± or ''DNC''± must be left unconnected.", 3 SDAIN (in) "Serial Data Input. High impedance data input for the I2C serial interface bus.", 4 AD3 (in) "Address Bit 3.", 5 AD2 (in) "Address Bit 2. See AD3.", 6 AD1 (in) "Address Bit 1. See AD3.", 7 AD0 (in) "Address Bit 0. See AD3.", 8 DNC "All pins identified with ''NC''± or ''DNC''± must be left unconnected.", 9 NC "All pins identified with ''NC''± or ''DNC''± must be left unconnected.", 11 NC "All pins identified with ''NC''± or ''DNC''± must be left unconnected.", 12 NC "All pins identified with ''NC''± or ''DNC''± must be left unconnected.", 14 ~{SHDN} (in) "Shutdown, Active Low. When pulled low, S\H\D\N\ shuts down the port, regardless of the state of the internal registers. Pulling S\H\D\N\ low is equivalent to setting the Reset Port bit in the Reset Pushbutton register (1Ah). (See Datasheet)", 20 NC "All pins identified with ''NC''± or ''DNC''± must be left unconnected.", 21 NC "All pins identified with ''NC''± or ''DNC''± must be left unconnected.", 23 NC "All pins identified with ''NC''± or ''DNC''± must be left unconnected.", 24 NC "All pins identified with ''NC''± or ''DNC''± must be left unconnected.", 28 NC "All pins identified with ''NC''± or ''DNC''± must be left unconnected.", 29 NC "All pins identified with ''NC''± or ''DNC''± must be left unconnected.", 30 SENSE (in) "Current Sense Input. SENSE monitors the external MOSFET current via a 0.5ohm or 0.25ohm sense resistor between SENSE and VEE. Whenever the voltage across the sense resistor exceeds the overcurrent detection threshold VCUT, (See Datasheet)", 31 GATE (out) "Gate Drive. GATE should be connected to the gate of the external MOSFET for the port. When the MOSFET is turned on, the gate voltage is driven to 12V (typ) above VEE. During a current limit condition, the voltage at GATE (See Datasheet)", 32 OUT (in) "Output Voltage Monitor. OUT should be connected to the output port. A current limit foldback circuit limits the power dissipation in the external MOSFET by reducing the current limit threshold when the drain-to-source (See Datasheet)", 33 AUTO (in) "AUTO Pin Mode Input.", 34 ~{MSD} (in) "Maskable Shutdown Input. Active low. When pulled low, all ports that have their corresponding mask bit set in the Misc Config register (17h) will be reset, equivalent to pulling the S\H\D\N\ pin low. Internal filtering of (See Datasheet)", 35 ~{RESET} (in) "Chip Reset, Active Low.", 36 MID (in) "Midspan Mode Input.", 37 ~{INT} (hiz) "Interrupt Output, Open Drain.", 38 SCL (in) "Serial Clock Input. High impedance clock input for the I2C serial interface bus. SCL must be tied high if not used."
part B pins: 10 DGND (power) "Digital Ground. DGND is the return for the VDD supply.", 13 VDD (power) "Logic Power Supply. Connect to a 3.3V power supply relative to DGND.", 15 DGND (power) "Digital Ground. DGND is the return for the VDD supply.", 16 DGND (power) "Digital Ground. DGND is the return for the VDD supply.", 17 DGND (power) "Digital Ground. DGND is the return for the VDD supply.", 18 AGND (power) "Analog Ground. AGND is the return for the VEE supply.", 19 VEE (power) "Main Supply Input. Connect to a -45V to -57V supply, relative to AGND.", 22 VEE (power) "Main Supply Input. Connect to a -45V to -57V supply, relative to AGND.", 25 VEE (power) "Main Supply Input. Connect to a -45V to -57V supply, relative to AGND.", 26 VEE (power) "Main Supply Input. Connect to a -45V to -57V supply, relative to AGND.", 27 VEE (power) "Main Supply Input. Connect to a -45V to -57V supply, relative to AGND.", 39 EP (power)

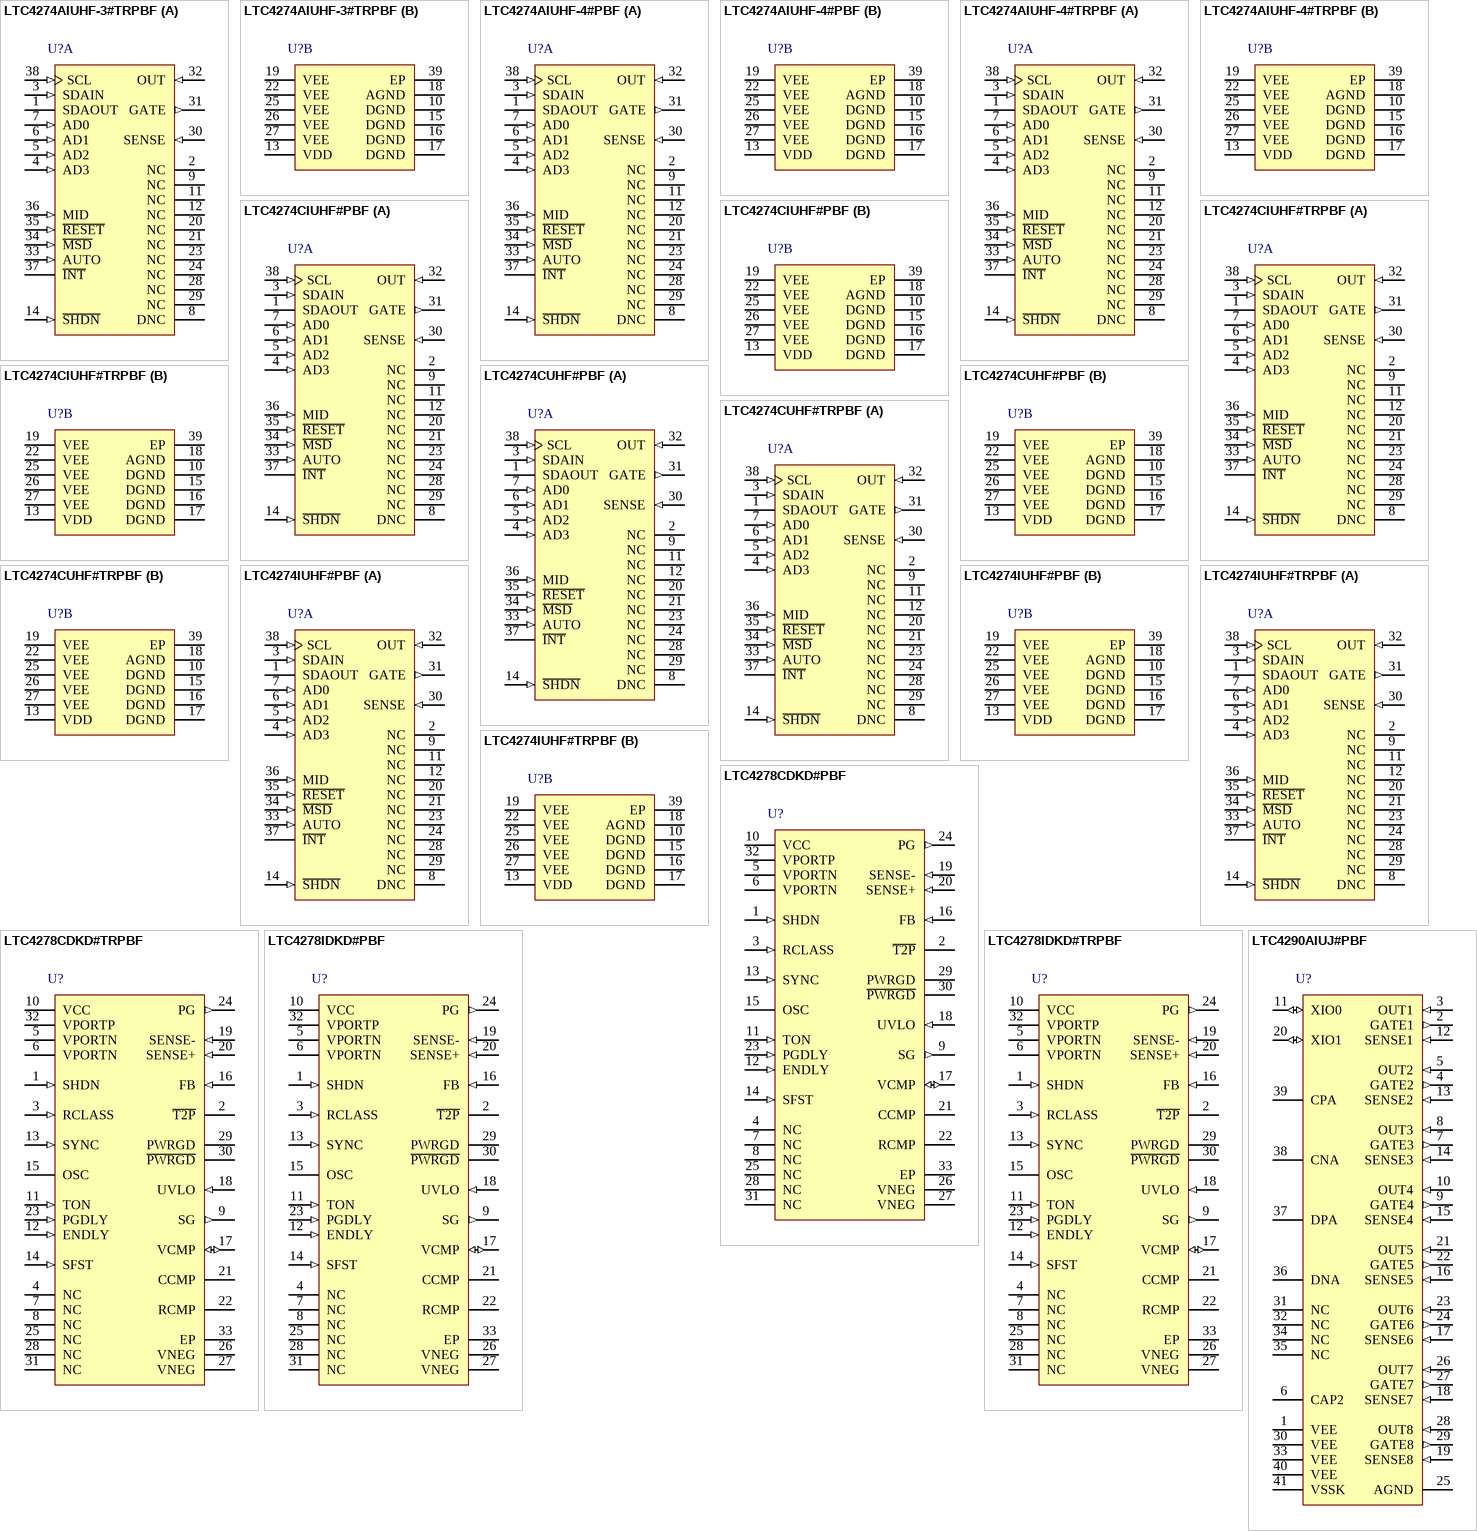
[diagram p7: symbols LTC4274AIUHF-3#TRPBF to LTC4290AIUJ#PBF]